# Altium schematic symbol library LTST-E683CEGBW.SchLib: 1 symbol
Pins are listed as number, name and electrical type; pins without a type are passive.

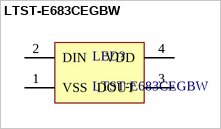
[diagram p0: symbol LTST-E683CEGBW]

## LTST-E683CEGBW
designator LED?
pins: 1 VSS (power), 2 DIN (power), 3 DOUT (power), 4 VDD (power)